# Altium integrated library WE_WR-TBL_Wire Protector System_3.50 mm_rev15b.IntLib: 8 symbols
Pins are listed as number, name and electrical type; pins without a type are passive.

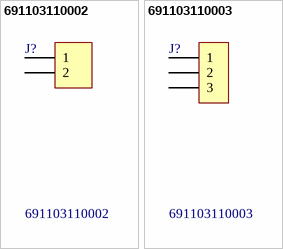
[diagram p0: symbols 691103110002 to 691103110003]

## 691103110002
designator J?
WR-TBL 3.50 mm Wire Protector system; Manufacturer: Würth Elektronik eiSos GmbH; ComponentLink1 Description: Manufacturer; ComponentLink2 Description: Datasheet; NoPins: 2; Created Date: 29 October 2013; partNo: 691103110002; ComponentLink1URL: http://www.we-online.com; ComponentLink2URL: http://katalog.we-online.de/em/datasheet/6911031100xx.pdf; Created by: Karrer Zheng
footprint 691103110002 (3,50mm - modular - blue - Horizontal wire entry - Pressure clamp - 8,4mm height - 02p)
pins: 1, 2

## 691103110003
designator J?
WR-TBL 3.50 mm Wire Protector system; Manufacturer: Würth Elektronik eiSos GmbH; ComponentLink1 Description: Manufacturer; ComponentLink2 Description: Datasheet; NoPins: 3; Created Date: 29 October 2013; partNo: 691103110003; ComponentLink1URL: http://www.we-online.com; ComponentLink2URL: http://katalog.we-online.de/em/datasheet/6911031100xx.pdf; Created by: Karrer Zheng
footprint 691103110003 (3,50mm - modular - blue - Horizontal wire entry - Pressure clamp - 8,4mm height - 03p)
pins: 1, 2, 3


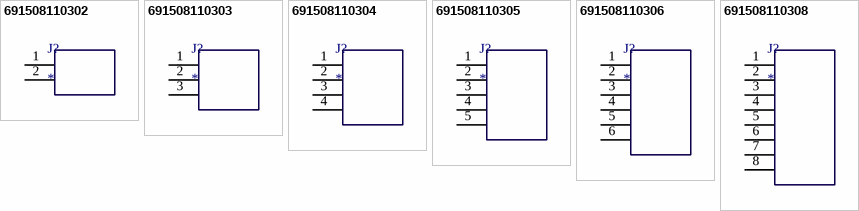
[diagram p1: symbols 691508110302 to 691508110308]

## 691508110302
designator J?
WR-TBL Terminal block - serie 5081; Manufacturer: Würth Elektronik eiSos GmbH; partNo: 691508110302; ComponentLink1 Description: Manufacturer; ComponentLink2 Description: Datasheet; ComponentLink1URL: http://www.we-online.de; ComponentLink2URL: http://katalog.we-online.de/em/datasheet/6915081103xx.pdf; Created by: Karrer Zheng; Created Date: 10/21/2014
footprint 691508110302
pins: 1  , 2  

## 691508110303
designator J?
WR-TBL Terminal block - serie 5081; Manufacturer: Würth Elektronik eiSos GmbH; partNo: 691508110303; ComponentLink1 Description: Manufacturer; ComponentLink2 Description: Datasheet; ComponentLink1URL: http://www.we-online.de; ComponentLink2URL: http://katalog.we-online.de/em/datasheet/6915081103xx.pdf; Created by: Karrer Zheng; Created Date: 10/21/2014
footprint 691508110303
pins: 1  , 2  , 3  

## 691508110304
designator J?
WR-TBL Terminal block - serie 5081; Manufacturer: Würth Elektronik eiSos GmbH; partNo: 691508110304; ComponentLink1 Description: Manufacturer; ComponentLink2 Description: Datasheet; ComponentLink1URL: http://www.we-online.de; ComponentLink2URL: http://katalog.we-online.de/em/datasheet/6915081103xx.pdf; Created by: Karrer Zheng; Created Date: 10/21/2014
footprint 691508110304
pins: 1  , 2  , 3  , 4  

## 691508110305
designator J?
WR-TBL Terminal block - serie 5081; Manufacturer: Würth Elektronik eiSos GmbH; partNo: 691508110305; ComponentLink1 Description: Manufacturer; ComponentLink2 Description: Datasheet; ComponentLink1URL: http://www.we-online.de; ComponentLink2URL: http://katalog.we-online.de/em/datasheet/6915081103xx.pdf; Created by: Karrer Zheng; Created Date: 10/21/2014
footprint 691508110305
pins: 1  , 2  , 3  , 4  , 5  

## 691508110306
designator J?
WR-TBL Terminal block - serie 5081; Manufacturer: Würth Elektronik eiSos GmbH; partNo: 691508110306; ComponentLink1 Description: Manufacturer; ComponentLink2 Description: Datasheet; ComponentLink1URL: http://www.we-online.de; ComponentLink2URL: http://katalog.we-online.de/em/datasheet/6915081103xx.pdf; Created by: Karrer Zheng; Created Date: 10/21/2014
footprint 691508110306
pins: 1  , 2  , 3  , 4  , 5  , 6  

## 691508110308
designator J?
WR-TBL Terminal block - serie 5081; Manufacturer: Würth Elektronik eiSos GmbH; partNo: 691508110308; ComponentLink1 Description: Manufacturer; ComponentLink2 Description: Datasheet; ComponentLink1URL: http://www.we-online.de; ComponentLink2URL: http://katalog.we-online.de/em/datasheet/6915081103xx.pdf; Created by: Karrer Zheng; Created Date: 10/21/2014
footprint 691508110308
pins: 1  , 2  , 3  , 4  , 5  , 6  , 7  , 8  